# Altium schematic symbol library integrated-circuit.SchLib: 15 symbols
Pins are listed as number, name and electrical type; pins without a type are passive.

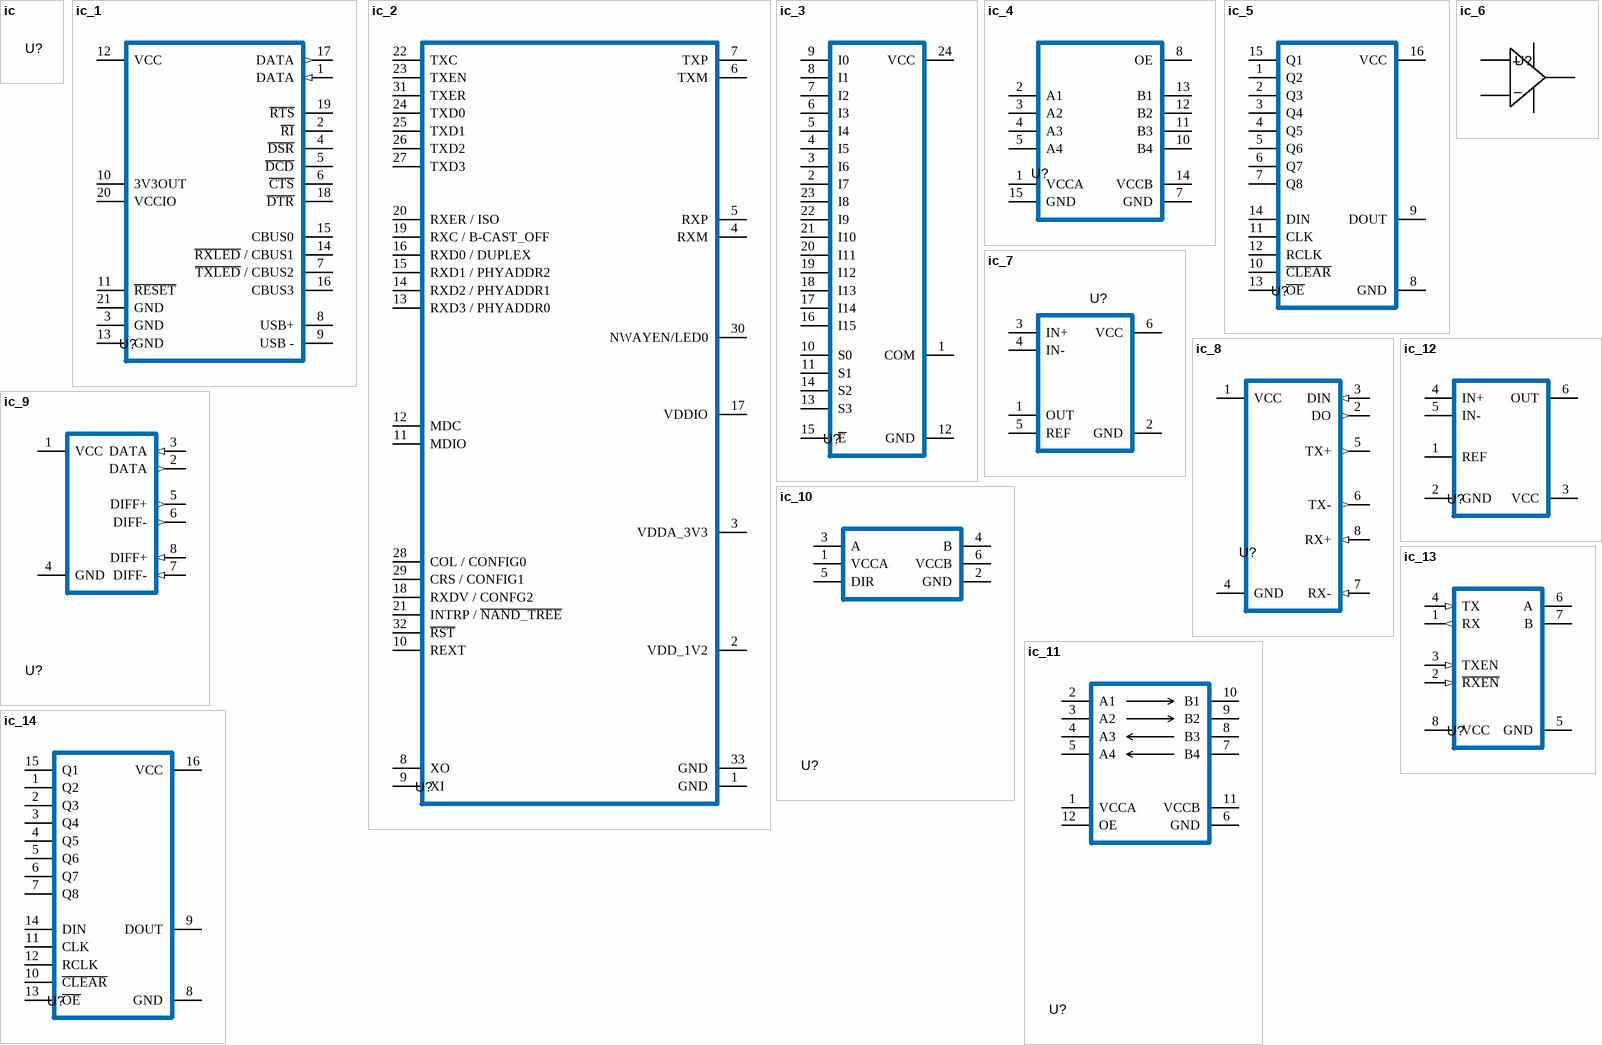
[diagram p0: symbols ic to ic_14]

## ic
designator U?
Template

## ic_1
designator U?, comment FTDI  (value not drawn)
USB to UART converter, FTDI, single, 20 pins, QFN; Manufacturer 1: FTDI, Future Technology Devices International Ltd; Manufacturer Part Number 1: FT231XQ-R; Supplier 1: Digi-Key; Supplier Part Number 1: 768-1128-1-ND
footprint FT231XQ-R (QFN, 20-Leads, Body 4.00x4.00mm, Pitch 0.50mm, Thermal Pad 1.98x1.98mm, IPC Medium Density)
pins: 1 DATA, 2 ~{RI}, 3 GND, 4 ~{DSR}, 5 ~{DCD}, 6 ~{CTS}, 7 ~{TXLED} / CBUS2, 8 USB+, 9 USB -, 10 3V3OUT, 11 ~{RESET}, 12 VCC, 13 GND, 14 ~{RXLED} / CBUS1, 15 CBUS0, 16 CBUS3, 17 DATA, 18 ~{DTR}, 19 ~{RTS}, 20 VCCIO, 21 GND

## ic_2
designator U?, comment KSZ8091  (value not drawn)
Ethernet tranceiver, 10/100 Base-T, MII, 32-pins, QFN; Manufacturer 1: Microchip Technology; Manufacturer Part Number 1: KSZ8091MNXIA-TR; Supplier 1: Digi-Key; Supplier Part Number 1: KSZ8091MNXIA-TR-ND; Link: https://www.digikey.no/product-detail/no/microchip-technology/KSZ8091MNXIA-TR/KSZ8091MNXIA-TR-ND/5049025
footprint KSZ8091MNXIA-TR (QFN, 32-Leads, Body 5.00x5.00mm, Pitch 0.50mm, Thermal Pad 3.10x3.10mm, IPC Medium Density)
pins: 1 GND, 2 VDD_1V2, 3 VDDA_3V3, 4 RXM, 5 RXP, 6 TXM, 7 TXP, 8 XO, 9 XI, 10 REXT, 11 MDIO, 12 MDC, 13 RXD3 / PHYADDR0, 14 RXD2 / PHYADDR1, 15 RXD1 / PHYADDR2, 16 RXD0 / DUPLEX, 17 VDDIO, 18 RXDV / CONFG2, 19 RXC / B-CAST_OFF, 20 RXER / ISO, 21 INTRP / ~{NAND_TREE}, 22 TXC, 23 TXEN, 24 TXD0, 25 TXD1, 26 TXD2, 27 TXD3, 28 COL / CONFIG0, 29 CRS / CONFIG1, 30 NWAYEN/LED0, 31 TXER, 32 ~{RST}, 33 GND

## ic_3
designator U?, comment Analog MUX  (value not drawn)
Analog MUX, bi-directional, 1:16, SOIC-24; Manufacturer 1: Texas Instruments; Manufacturer Part Number 1: CD74HCT4067M; Supplier 1: Digi-Key; Supplier Part Number 1: 296-23078-ND; Link: https://www.digikey.no/product-detail/en/texas-instruments/CD74HCT4067M/296-23078-ND/1507928
footprint CD74HCT4067M (SOIC, 24-Leads, Body 15.40x7.50mm, Pitch 1.27mm, IPC Medium Density)
pins: 1 COM, 2 I7, 3 I6, 4 I5, 5 I4, 6 I3, 7 I2, 8 I1, 9 I0, 10 S0, 11 S1, 12 GND, 13 S3, 14 S2, 15 ~{E}, 16 I15, 17 I14, 18 I13, 19 I12, 20 I11, 21 I10, 22 I9, 23 I8, 24 VCC

## ic_4
designator U?
Level shifter, bidirectional, 4-channel, 1.65V - 5V, QFN; Manufacturer 1: NXP USA Inc.; Manufacturer Part Number 1: NTS0104BQ,115; Supplier 1: Digi-Key; Supplier Part Number 1: 568-8407-6-ND; Link: https://www.digikey.no/en/products/detail/nxp-usa-inc/NTS0104BQ-115/2763906
footprint NTS0104BQ,115 (QFN, 14-Leads, Body 2.50x3.00mm, Pitch 0.50mm, Thermal Pad 1.00x1.50mm, IPC Medium Density)
pins: 1 VCCA, 2 A1, 3 A2, 4 A3, 5 A4, 7 GND, 8 OE, 10 B4, 11 B3, 12 B2, 13 B1, 14 VCCB, 15 GND

## ic_5
designator U?, comment Shift register  (value not drawn)
Shift register, serial to parallel, 8 bit, tri-state, TSSOP-16; Manufacturer 1: Texas Instruments; Manufacturer Part Number 1: SN74HCS596PWR; Supplier 1: Digi-Key; Supplier Part Number 1: 296-SN74HCS596PWRCT-ND; Link: https://www.digikey.no/product-detail/no/texas-instruments/SN74HCS596PWR/296-SN74HCS596PWRCT-ND/13532402
footprint SN74HCS595PWR (TSOP, 16-Leads, Body 5.00x4.40mm, Pitch 0.65mm, IPC Medium Density)
pins: 1 Q2, 2 Q3, 3 Q4, 4 Q5, 5 Q6, 6 Q7, 7 Q8, 8 GND, 9 DOUT, 10 ~{CLEAR}, 11 CLK, 12 RCLK, 13 ~{OE}, 14 DIN, 15 Q1, 16 VCC

## ic_6
designator U?
OpAmp, 1 circuit, rail-to-rail, single supply, 1.8V to 5V, SOT23-5; Manufacturer 1: Microchip Technology; Manufacturer Part Number 1: MCP6241T-E/OT; Supplier 1: Digi-Key; Supplier Part Number 1: MCP6241T-E/OTCT-ND
footprint MCP6241T-E/OT (SOT23, 5-Leads, Body 2.03x2.10mm, Pitch 0.65mm, IPC Medium Density)
pins: 1, 2, 3, 4, 5
text: +; _

## ic_7
designator U?
Current sense, rail-to-rail, 1 channel, 0-26V, 200 gain, SOT23-6; Manufacturer 1: Texas Instruments; Manufacturer Part Number 1: INA181A4QDBVRQ1; Supplier 1: Digi-Key; Supplier Part Number 1: 296-INA181A4QDBVRQ1TR-ND; Link: https://www.digikey.no/en/products/detail/texas-instruments/INA181A4QDBVRQ1/10448336
footprint INA181A4QDBVRQ1 (SOT23, 6-Leads, Body 2.90x2.80mm, Pitch 0.95mm, IPC Medium Density)
pins: 1 OUT, 2 GND, 3 IN+, 4 IN-, 5 REF, 6 VCC

## ic_8
designator U?
RS485 tranceiver, full-duplex, 5V, ESD protection, SOIC; Manufacturer 1: STMicroelectronics; Manufacturer Part Number 1: ST490ABDR; Supplier 1: Digi-Key; Supplier Part Number 1: 497-2091-2-ND; Link: https://www.digikey.no/en/products/detail/ST490ABDR/497-2091-1-ND/599092?itemSeq=389518769
footprint ST490ABDR (SOIC, 8-Leads, Body 4.90x3.90mm, Pitch 1.27mm, IPC Medium Density)
pins: 1 VCC, 2 DO, 3 DIN, 4 GND, 5 TX+, 6 TX-, 7 RX-, 8 RX+

## ic_9
designator U?
RS485 compliant tranceiver, full-duplex, 5V, ESD protection, TSOP; Manufacturer 1: Analog Devices Inc.; Manufacturer Part Number 1: ADM488ABRMZ-REEL7; Supplier 1: Digi-Key; Supplier Part Number 1: ADM488ABRMZ-REEL7TR-ND; Link: https://www.digikey.no/no/products/detail/analog-devices-inc/ADM488ABRMZ-REEL7/2261075
footprint ADM488ABRMZ-REEL7 (TSOP, 8-Leads, Body 3.00x3.00mm, Pitch 0.65mm, IPC Medium Density)
pins: 1 VCC, 2 DATA, 3 DATA, 4 GND, 5 DIFF+, 6 DIFF-, 7 DIFF-, 8 DIFF+

## ic_10
designator U?
Level shifter, bidirectional, 1.65V - 5V, SOT-563; Manufacturer 1: Diodes Incorporated; Manufacturer Part Number 1: 74LVC1T45Z6-7; Supplier 1: Digi-Key; Supplier Part Number 1: 74LVC1T45Z6-7DITR-ND; Link: https://www.digikey.no/en/products/detail/diodes-incorporated/74LVC1T45Z6-7/4898825
footprint 74LVC1T45Z6-7 (SON, 6-Leads, Body 1.60x1.18mm, Pitch 0.50mm, IPC Medium Density)
pins: 1 VCCA, 2 GND, 3 A, 4 B, 5 DIR, 6 VCCB

## ic_11
designator U?
Level shifter, 2x 2-lane unidirectional, 1.08V - 5V, QFN-12; Manufacturer 1: Texas Instruments; Manufacturer Part Number 1: TXU0204RUTR; Supplier 1: Digi-Key; Supplier Part Number 1: 296-TXU0204RUTR-ND; Link: https://www.digikey.no/en/products/detail/texas-instruments/TXU0204RUTR/14835778
footprint TXU0204RUTR (QFN, 12-Leads, Body 1.70x2.00mm, Pitch 0.40mm, IPC Medium Density)
pins: 1 VCCA, 2 A1, 3 A2, 4 A3, 5 A4, 6 GND, 7 B4, 8 B3, 9 B2, 10 B1, 11 VCCB, 12 OE

## ic_12
designator U?
Current sense, rail-to-rail, 1 channel, -0.3-26V, 100 gain, 0.5% error, SOT23-6; Manufacturer 1: Texas Instruments; Manufacturer Part Number 1: INA214CIDCKR; Supplier 1: Digi-Key; Supplier Part Number 1: 296-48553-2-ND; Link: https://www.digikey.no/en/products/detail/texas-instruments/INA214CIDCKR/7312797
footprint INA214CIDCKR (TSOP, 6-Leads, Body 2.00x1.25mm, Pitch 0.65mm, IPC Medium Density)
pins: 1 REF, 2 GND, 3 VCC, 4 IN+, 5 IN-, 6 OUT

## ic_13
designator U?
RS485 tranceiver, half-duplex, 5V, ESD protection, SOIC-8; Manufacturer 1: Analog Devices Inc.; Manufacturer Part Number 1: ADM483JR-REEL7; Supplier 1: Rochester Electronics; Supplier Part Number 1: ADM483JR-REEL7; Link: https://www.rocelec.com/part/ANAADM483JR-REEL7?utm_source=findChips&utm_medium=buyNow
footprint ADM483JR (SOIC, 8-Leads, Body 4.90x3.90mm, Pitch 1.27mm, IPC Medium Density)
pins: 1 RX, 2 ~{RXEN}, 3 TXEN, 4 TX, 5 GND, 6 A, 7 B, 8 VCC

## ic_14
designator U?, comment Shift register  (value not drawn)
Shift register, serial to parallel, 8 bit, tri-state, TSSOP-16; Manufacturer 1: Texas Instruments; Manufacturer Part Number 1: SN74HCS596PWR; Supplier 1: Digi-Key; Supplier Part Number 1: 296-SN74HCS596PWRCT-ND; Link: https://www.digikey.no/product-detail/no/texas-instruments/SN74HCS596PWR/296-SN74HCS596PWRCT-ND/13532402
footprint SN74HCS595PWR (TSOP, 16-Leads, Body 5.00x4.40mm, Pitch 0.65mm, IPC Medium Density)
pins: 1 Q2, 2 Q3, 3 Q4, 4 Q5, 5 Q6, 6 Q7, 7 Q8, 8 GND, 9 DOUT, 10 ~{CLEAR}, 11 CLK, 12 RCLK, 13 ~{OE}, 14 DIN, 15 Q1, 16 VCC